# EAGLE library part L78LXXBD/CD (library Regulator_TI)
VOLTAGE REGULATOR
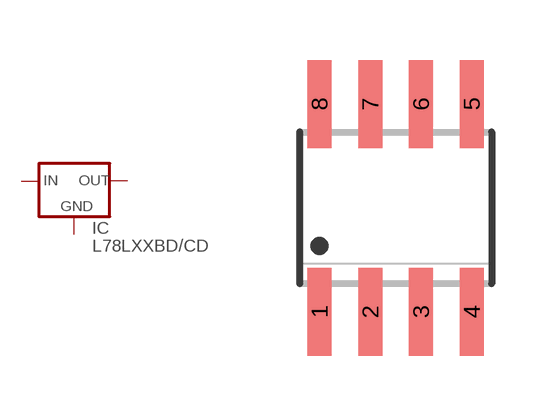
[diagram p1: symbol with the pads of SO08; footprint SO08]

Designator prefix IC

## L78LXXBD/CD  [SO08]
1  OUT  pas
2  GND1  in
3  GND3  in
6  GND4  in
7  GND2  in
8  IN  in

## Footprint SO08 (pad centres in mm)
SMALL OUTLINE INTEGRATED CIRCUIT body 3.9 mm/JEDEC MS-012AA
smd 0.6 x 2.2: 1 -1.905,-2.6; 2 -0.635,-2.6; 3 0.635,-2.6; 4 1.905,-2.6; 5 1.905,2.6; 6 0.635,2.6; 7 -0.635,2.6; 8 -1.905,2.6